# Altium schematic symbol library Schlib.SchLib: 4 symbols
Pins are listed as number, name and electrical type; pins without a type are passive.

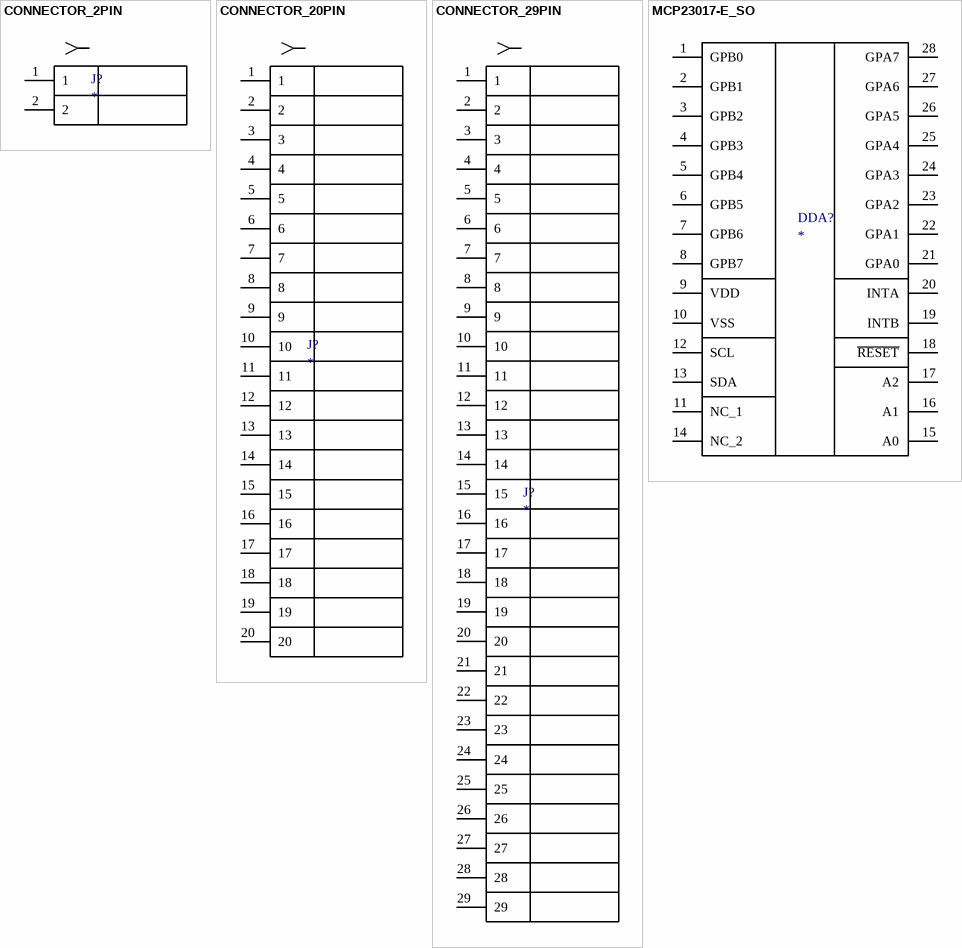
[diagram p0: symbols CONNECTOR_2PIN to MCP23017-E_SO]

## CONNECTOR_2PIN
designator J?
Connector 2 pin
pins: 1, 2

## CONNECTOR_20PIN
designator J?
Connector 20 pin
pins: 1, 2, 3, 4, 5, 6, 7, 8, 9, 10, 11, 12, 13, 14, 15, 16, 17, 18, 19, 20

## CONNECTOR_29PIN
designator J?
Connector 29 pin
footprint Connector_29pin
pins: 1, 2, 3, 4, 5, 6, 7, 8, 9, 10, 11, 12, 13, 14, 15, 16, 17, 18, 19, 20, 21, 22, 23, 24, 25, 26, 27, 28, 29

## MCP23017-E_SO
designator DDA?
Integrated Circuit; Manufacturer_Name: Microchip; Manufacturer_Part_Number: MCP23017-E/SO; Datasheet Link: http://docs-emea.rs-online.com/webdocs/0a78/0900766b80a784c3.pdf; Height: 2.65mm; Mouser Part Number: 579-MCP23017-E/SO; Mouser Price/Stock: https://www.mouser.co.uk/ProductDetail/Microchip-Technology/MCP23017-E-SO?qs=usxtMOJb1Rz8hft7vV7YMQ%3D%3D; Arrow Part Number: MCP23017-E/SO; Arrow Price/Stock: https://www.arrow.com/en/products/mcp23017-eso/microchip-technology
footprint SOIC127P1030X265-28N
pins: 1 GPB0, 2 GPB1, 3 GPB2, 4 GPB3, 5 GPB4, 6 GPB5, 7 GPB6, 8 GPB7, 9 VDD, 10 VSS, 11 NC_1, 12 SCL, 13 SDA, 14 NC_2, 15 A0, 16 A1, 17 A2, 18 ~{RESET}, 19 INTB, 20 INTA, 21 GPA0, 22 GPA1, 23 GPA2, 24 GPA3, 25 GPA4, 26 GPA5, 27 GPA6, 28 GPA7